# Altium footprint library MyLibOLD.pcblib: 112 footprints (part 3 of 7)
Each footprint in its own frame and in the unit in brackets; x right, y up, seen from the top. Pads: shape width x height; smd on the part's side, far side on the other; paste and mask are expansions set on the pad; w line width, h text height; cw(c..) or ccw(c..) is an arc to the next point about the centre after c.
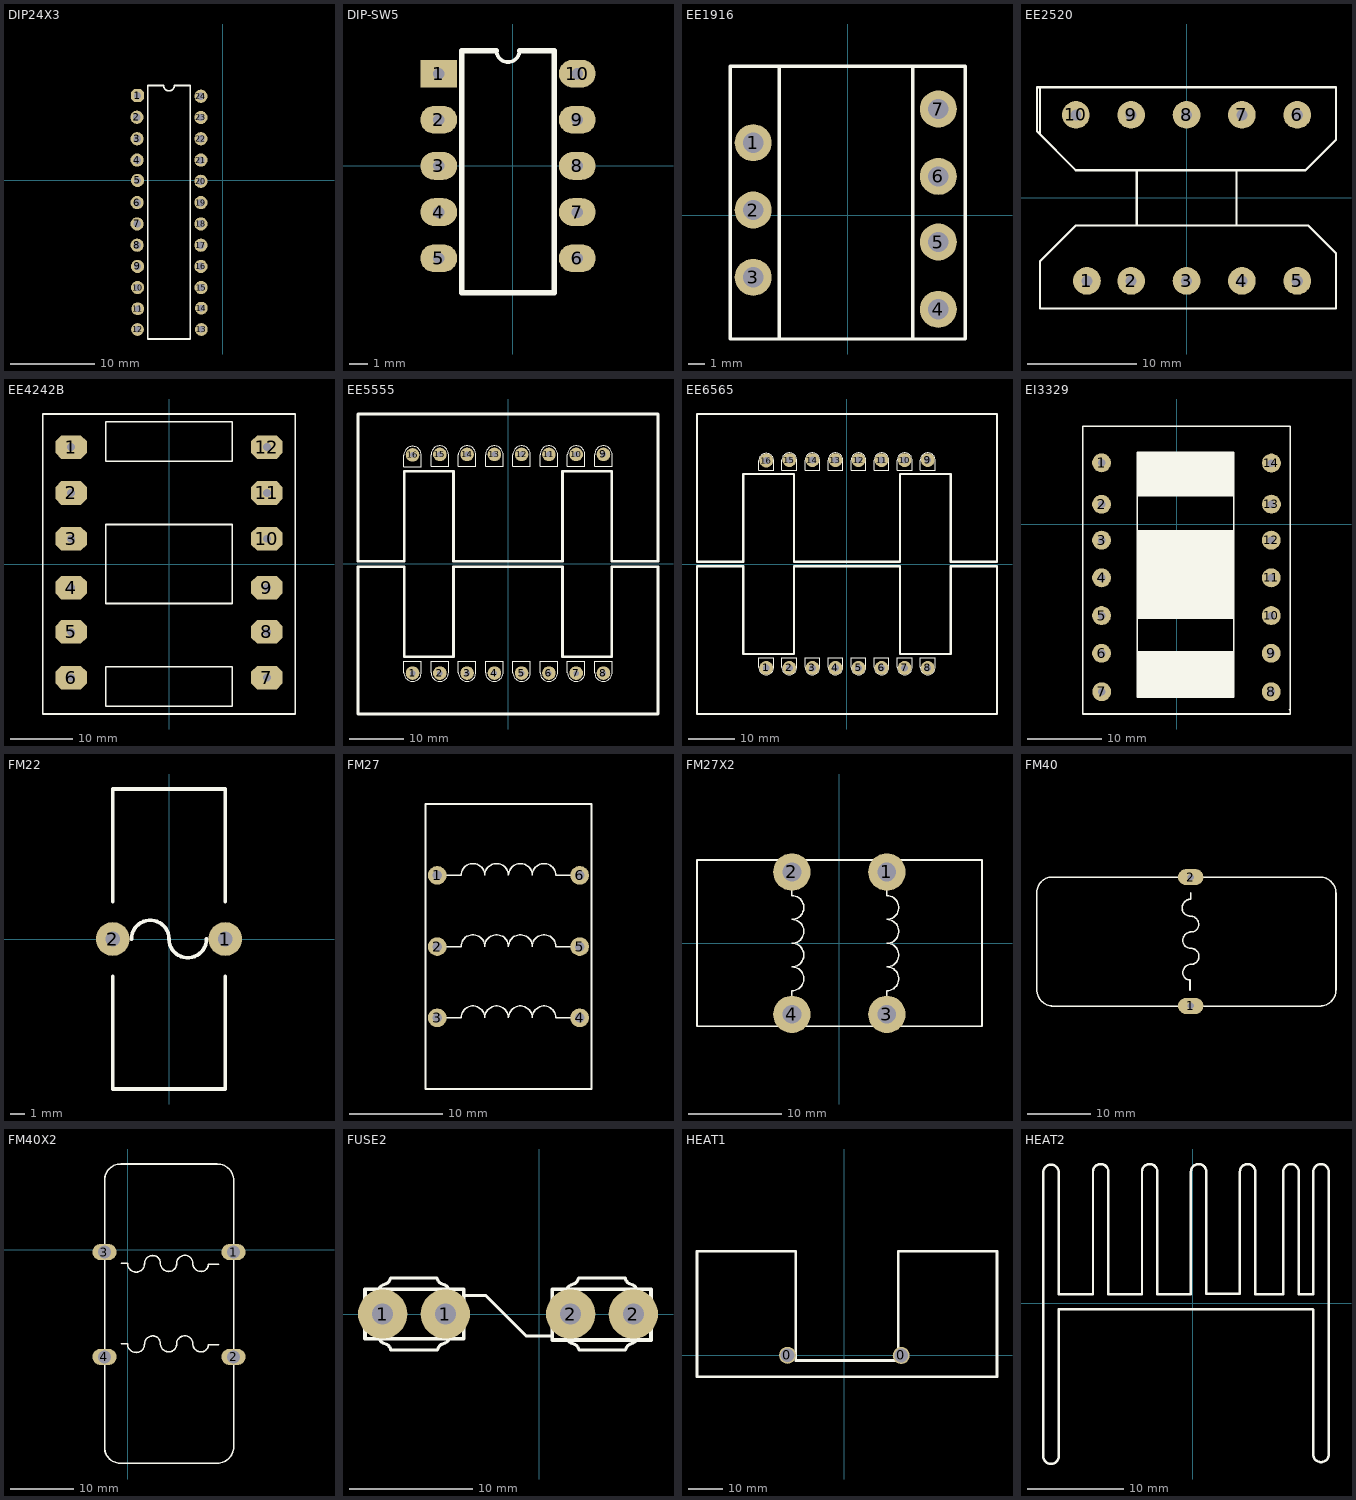
[diagram p2: the footprints below, top view; thin cyan lines are the x and y axes]

## DIP24X3 [mil]
pads (24):
  oct 62x62 hole 35: 1(-400,399)
  round 62 hole 35: 2(-403,297) 3(-402,196) 4(-402,96) 5(-400,0) 6(-402,-104) 7(-402,-204) 8(-402,-304) 9(-400,-404) 10(-400,-503) 15(-101,-503) 16(-102,-404) 17(-102,-304) 18(-102,-204) 19(-102,-104) 20(-102,-4) 21(-102,96) 22(-102,196) 23(-102,296) 24(-102,396)
  round 60 hole 30: 11(-399,-603) 12(-400,-700) 13(-100,-700) 14(-100,-600)
TopOverlay:
  lines w7.87: -352,-745 -152,-745 -152,446 -227,446 cw(c-252,446) -277,446 -352,446 -352,-745

## DIP-SW5 [mil]
pads (10):
  rect 80x60 hole 25: 1(-160,200)
  oval 80x60 hole 25: 2(-160,100) 3(-160,0) 4(-160,-100) 5(-160,-200) 6(140,-200) 7(140,-100) 8(140,0) 9(140,100) 10(140,200)
TopLayer:
TopOverlay:
  lines w8: -35,250 ccw(c-10,250) 15,250
  lines w12: -35,250 -110,250 -110,-275 90,-275 90,250 15,250

## EE1916 [mm]
pads (7):
  round 2.2 hole 1.2: 1(-5.625,4.299) 2(-5.625,0.299) 3(-5.625,-3.701) 4(5.375,-5.601) 5(5.375,-1.601) 6(5.375,2.299) 7(5.375,6.299)
TopOverlay:
  lines w0.203: -4.089,-7.29 -4.089,8.814 ; 3.861,-7.315 3.861,8.712 ; 6.909,-7.366 6.985,-7.366 ; 6.985,-7.366 -6.985,-7.366 -6.985,-7.29 -6.985,8.839 -5.537,8.839 6.985,8.839 6.985,-7.366

## EE2520 [mil]
pads (10):
  round 100 hole 40: 1(-360,-300) 2(-200,-300) 3(0,-300) 4(200,-300) 5(400,-300) 6(400,300) 7(200,300) 8(0,300) 9(-200,300) 10(-400,300)
TopOverlay:
  lines w8: -520,400 -540,400 -540,240 -400,100 ; -180,-100 -180,100 ; 180,-100 180,100 ; -400,100 -530,230 -530,400 540,400 540,210 430,100 -400,100 ; -530,-400 -530,-230 -400,-100 440,-100 540,-200 540,-400 -530,-400

## EE4242B [mil]
pads (12):
  oct 200x150 hole 50: 1(-620,740) 2(-620,450) 3(-620,160) 4(-620,-150) 5(-620,-430) 6(-620,-720) 7(620,-720) 8(620,-430) 9(620,-150) 10(620,160) 11(620,450) 12(620,740)
TopOverlay:
  lines w10: -800,-950 800,-950 800,950 -800,950 -800,-950 ; -400,-900 400,-900 400,-650 -400,-650 -400,-900 ; -400,-250 400,-250 400,250 -400,250 -400,-250 ; -400,650 400,650 400,900 -400,900 -400,650

## EE5555 [mm]
pads (16):
  round 2.5 hole 1: 1(-17.5,-20.05) 2(-12.5,-20.05) 3(-7.5,-20.05) 4(-2.5,-20.05) 5(2.5,-20.05) 6(7.5,-20.05) 7(12.5,-20.05) 8(17.5,-20.05) 9(17.5,20.05) 10(12.5,20.05) 11(7.5,20.05) 12(2.5,20.05) 13(-2.5,20.05) 14(-7.5,20.05) 15(-12.5,20.05) 16(-17.5,19.95)
TopOverlay:
  lines w0.203: -19.1,-19.95 ccw(c-17.5,-19.95) -15.9,-19.95 -15.9,-17.85 -19.1,-17.85 -19.1,-19.85 -19.1,-19.95 ; -19.1,17.816 -19.1,19.816 -19.1,19.916 cw(c-17.5,19.916) -15.9,19.916 -15.9,17.816 -19.1,17.816 ; -14.1,-19.95 ccw(c-12.5,-19.95) -10.9,-19.95 -10.9,-17.85 -14.1,-17.85 -14.1,-19.85 -14.1,-19.95 ; -14.1,17.916 -14.1,19.916 -14.1,20.016 cw(c-12.5,20.016) -10.9,20.016 -10.9,17.916 -14.1,17.916 ; -9.1,-19.95 ccw(c-7.5,-19.95) -5.9,-19.95 -5.9,-17.85 -9.1,-17.85 -9.1,-19.85 -9.1,-19.95 ; -9.1,17.916 -9.1,19.916 -9.1,20.016 cw(c-7.5,20.016) -5.9,20.016 -5.9,17.916 -9.1,17.916 ; -4.1,-19.95 ccw(c-2.5,-19.95) -0.9,-19.95 -0.9,-17.85 -4.1,-17.85 -4.1,-19.85 -4.1,-19.95 ; -4.1,17.916 -4.1,19.916 -4.1,20.016 cw(c-2.5,20.016) -0.9,20.016 -0.9,17.916 -4.1,17.916 ; 0.9,-19.95 ccw(c2.5,-19.95) 4.1,-19.95 4.1,-17.85 0.9,-17.85 0.9,-19.85 0.9,-19.95 ; 0.9,17.916 0.9,19.916 0.9,20.016 cw(c2.5,20.016) 4.1,20.016 4.1,17.916 0.9,17.916 ; 5.9,-19.95 ccw(c7.5,-19.95) 9.1,-19.95 9.1,-17.85 5.9,-17.85 5.9,-19.85 5.9,-19.95 ; 5.9,17.916 5.9,19.916 5.9,20.016 cw(c7.5,20.016) 9.1,20.016 9.1,17.916 5.9,17.916 ; 10.9,-19.95 ccw(c12.5,-19.95) 14.1,-19.95 14.1,-17.85 10.9,-17.85 10.9,-19.85 10.9,-19.95 ; 10.9,17.916 10.9,19.916 10.9,20.016 cw(c12.5,20.016) 14.1,20.016 14.1,17.916 10.9,17.916 ; 15.9,-19.95 ccw(c17.5,-19.95) 19.1,-19.95 19.1,-17.85 15.9,-17.85 15.9,-19.85 15.9,-19.95 ; 15.9,17.916 15.9,19.916 15.9,20.016 cw(c17.5,20.016) 19.1,20.016 19.1,17.916 15.9,17.916
  lines w0.5: -27.5,-27.55 -27.5,-0.55 -19,-0.55 -19,-17.05 -10,-17.05 -10,-0.55 10,-0.55 10,-17.05 19,-17.05 19,-0.55 27.5,-0.55 27.5,-27.55 -27.5,-27.55 ; -27.5,0.45 -27.5,27.45 27.5,27.45 27.5,0.45 19,0.45 19,16.95 10,16.95 10,0.45 -10,0.45 -10,16.95 -19,16.95 -19,0.45 -27.5,0.45

## EE6565 [mm]
pads (16):
  round 3 hole 1.5: 1(-17.5,-22.5) 2(-12.5,-22.5) 3(-7.5,-22.5) 4(-2.5,-22.5) 5(2.5,-22.5) 6(7.5,-22.5) 7(12.5,-22.5) 8(17.5,-22.5) 9(17.5,22.5) 10(12.5,22.5) 11(7.5,22.5) 12(2.5,22.5) 13(-2.5,22.5) 14(-7.5,22.5) 15(-12.5,22.5) 16(-17.5,22.4)
TopOverlay:
  lines w0.203: -19.1,-22.4 ccw(c-17.5,-22.4) -15.9,-22.4 -15.9,-20.3 -19.1,-20.3 -19.1,-22.3 -19.1,-22.4 ; -19.1,20.266 -15.9,20.266 -15.9,22.366 ccw(c-17.5,22.366) -19.1,22.366 -19.1,22.266 -19.1,20.266 ; -14.1,-22.4 ccw(c-12.5,-22.4) -10.9,-22.4 -10.9,-20.3 -14.1,-20.3 -14.1,-22.3 -14.1,-22.4 ; -14.1,20.366 -10.9,20.366 -10.9,22.466 ccw(c-12.5,22.466) -14.1,22.466 -14.1,22.366 -14.1,20.366 ; -9.1,-22.4 ccw(c-7.5,-22.4) -5.9,-22.4 -5.9,-20.3 -9.1,-20.3 -9.1,-22.3 -9.1,-22.4 ; -9.1,20.366 -5.9,20.366 -5.9,22.466 ccw(c-7.5,22.466) -9.1,22.466 -9.1,22.366 -9.1,20.366 ; -4.1,-22.4 ccw(c-2.5,-22.4) -0.9,-22.4 -0.9,-20.3 -4.1,-20.3 -4.1,-22.3 -4.1,-22.4 ; -4.1,20.366 -0.9,20.366 -0.9,22.466 ccw(c-2.5,22.466) -4.1,22.466 -4.1,22.366 -4.1,20.366 ; 0.9,-22.4 ccw(c2.5,-22.4) 4.1,-22.4 4.1,-20.3 0.9,-20.3 0.9,-22.3 0.9,-22.4 ; 0.9,20.366 4.1,20.366 4.1,22.466 ccw(c2.5,22.466) 0.9,22.466 0.9,22.366 0.9,20.366 ; 5.9,-22.4 ccw(c7.5,-22.4) 9.1,-22.4 9.1,-20.3 5.9,-20.3 5.9,-22.3 5.9,-22.4 ; 5.9,20.366 9.1,20.366 9.1,22.466 ccw(c7.5,22.466) 5.9,22.466 5.9,22.366 5.9,20.366 ; 10.9,-22.4 ccw(c12.5,-22.4) 14.1,-22.4 14.1,-20.3 10.9,-20.3 10.9,-22.3 10.9,-22.4 ; 10.9,20.366 14.1,20.366 14.1,22.466 ccw(c12.5,22.466) 10.9,22.466 10.9,22.366 10.9,20.366 ; 15.9,-22.4 ccw(c17.5,-22.4) 19.1,-22.4 19.1,-20.3 15.9,-20.3 15.9,-22.3 15.9,-22.4 ; 15.9,20.366 19.1,20.366 19.1,22.466 ccw(c17.5,22.466) 15.9,22.466 15.9,22.366 15.9,20.366
  lines w0.5: -32.5,-32.5 -32.5,-0.5 -22.5,-0.5 -22.5,-19.5 -11.5,-19.5 -11.5,-0.5 11.5,-0.5 11.5,-19.5 22.5,-19.5 22.5,-0.5 32.5,-0.5 32.5,-32.5 -32.5,-32.5 ; -32.5,0.5 -32.5,32.5 32.5,32.5 32.5,0.5 22.5,0.5 22.5,19.5 11.5,19.5 11.5,0.5 -11.5,0.5 -11.5,19.5 -22.5,19.5 -22.5,0.5 -32.5,0.5

## EI3329 [mil]
pads (14):
  round 100 hole 40: 1(-400,325) 2(-400,105) 3(-400,-85) 4(-400,-285) 5(-400,-485) 6(-400,-685) 7(-399,-889) 8(500,-889) 9(500,-685) 10(500,-485) 11(500,-285) 12(500,-85) 13(501,106) 14(501,324)
TopOverlay:
  rectangle: -211.41,-504.35 300.4,-31.91
  rectangle: -211.41,-917.73 300.4,-677.58
  rectangle: -211.41,145.26 300.4,381.48
  lines w8: -500,-985 -500,520 ; -500,-975 -500,-1007 600,-1007 600,-981 ; -491,520 -500,520 ; -207.47,-681.51 -207.47,-677.58 296.46,-677.58 296.46,-681.51 ; 595,-985 600,-985 600,484 600,520 -500,520 ; -211.41,-917.73 -211.41,381.48 300.4,381.48 300.4,-917.73 -211.41,-917.73

## FM22 [mil]
pads (2):
  round 90 hole 39.37: 1(150,0) 2(-150,0)
TopOverlay:
  lines w10: -150,-100 -150,-400 150,-400 150,-100 ; -150,100 -150,400 150,400 150,100 ; -100,0 cw(c-50,0) 0,0 ccw(c50,0) 100,0

## FM27 [mm]
pads (6):
  round 2 hole 1: 1(245.669,74.778) 2(245.669,67.158) 3(245.669,59.538) 4(260.909,59.538) 5(260.909,67.158) 6(260.909,74.778)
TopOverlay:
  lines w0.152: 245.669,59.538 248.209,59.538 cw(c249.479,59.538) 250.749,59.538 cw(c252.019,59.538) 253.289,59.538 cw(c254.559,59.538) 255.829,59.538 cw(c257.099,59.538) 258.369,59.538 260.909,59.538 ; 245.669,67.158 248.209,67.158 cw(c249.479,67.158) 250.749,67.158 cw(c252.019,67.158) 253.289,67.158 cw(c254.559,67.158) 255.829,67.158 cw(c257.099,67.158) 258.369,67.158 260.909,67.158 ; 245.669,74.778 248.209,74.778 cw(c249.479,74.778) 250.749,74.778 cw(c252.019,74.778) 253.289,74.778 cw(c254.559,74.778) 255.829,74.778 cw(c257.099,74.778) 258.369,74.778 260.909,74.778
  lines w0.203: 244.399,51.918 262.179,51.918 262.179,82.398 244.399,82.398 244.399,51.918

## FM27X2 [mm]
pads (4):
  round 4 hole 2: 1(5.08,7.62) 2(-5.08,7.62) 3(5.08,-7.62) 4(-5.08,-7.62)
TopOverlay:
  lines w0.152: -5.08,-7.62 -5.08,-5.08 ccw(c-5.08,-3.81) -5.08,-2.54 ccw(c-5.08,-1.27) -5.08,0 ccw(c-5.08,1.27) -5.08,2.54 ccw(c-5.08,3.81) -5.08,5.08 -5.08,7.62 ; 5.08,-7.62 5.08,-5.08 ccw(c5.08,-3.81) 5.08,-2.54 ccw(c5.08,-1.27) 5.08,0 ccw(c5.08,1.27) 5.08,2.54 ccw(c5.08,3.81) 5.08,5.08 5.08,7.62
  lines w0.203: -15.24,-8.89 15.24,-8.89 15.24,8.89 -15.24,8.89 -15.24,-8.89

## FM40 [mil]
pads (2):
  oval 157.48x100 hole 40: 1(11005,4565) 2(11005,5364)
TopOverlay:
  lines w10: 10156,5364 11806,5364 cw(c11806,5264) 11906,5264 11906,5253 11906,4665 cw(c11805,4665) 11805,4564 10153,4564 cw(c10153,4666) 10051,4666 10051,5268 cw(c10147,5268) 10147,5364 10166,5364 ; 11001,4662 11001,4726 cw(c11001,4771) 10956,4771 cw(c11008,4771) 11008,4823 ccw(c11008,4871) 11056,4871 ccw(c11004,4871) 11004,4923 cw(c11004,4971) 10956,4971 cw(c11009,4971) 11009,5024 ccw(c11009,5070) 11055,5070 ccw(c11003,5070) 11003,5122 cw(c11003,5173) 10952,5173 cw(c11006,5173) 11006,5227 11006,5265

## FM40X2 [mil]
pads (4):
  oval 150x100 hole 78.74: 1(655.85,-13) 2(655.85,-663) 3(-144.15,-13) 4(-144.15,-663)
TopOverlay:
  lines w10: -143.15,-1217 -143.15,433 cw(c-43.15,433) -43.15,533 -32.15,533 555.85,533 cw(c555.85,432) 656.85,432 656.85,-1220 cw(c554.85,-1220) 554.85,-1322 -47.15,-1322 cw(c-47.15,-1226) -143.15,-1226 -143.15,-1207 ; -39.15,-581.69 -1.15,-581.69 ccw(c52.85,-581.69) 52.85,-635.69 ccw(c52.85,-584.69) 103.85,-584.69 cw(c155.85,-584.69) 155.85,-532.69 cw(c155.85,-578.69) 201.85,-578.69 ccw(c254.85,-578.69) 254.85,-631.69 ccw(c254.85,-583.69) 302.85,-583.69 cw(c354.85,-583.69) 354.85,-531.69 cw(c354.85,-579.69) 402.85,-579.69 ccw(c454.85,-579.69) 454.85,-631.69 ccw(c454.85,-586.69) 499.85,-586.69 563.85,-586.69 ; -39.15,-83.26 -1.15,-83.26 ccw(c52.85,-83.26) 52.85,-137.26 ccw(c52.85,-86.26) 103.85,-86.26 cw(c155.85,-86.26) 155.85,-34.26 cw(c155.85,-80.26) 201.85,-80.26 ccw(c254.85,-80.26) 254.85,-133.26 ccw(c254.85,-85.26) 302.85,-85.26 cw(c354.85,-85.26) 354.85,-33.26 cw(c354.85,-81.26) 402.85,-81.26 ccw(c454.85,-81.26) 454.85,-133.26 ccw(c454.85,-88.26) 499.85,-88.26 563.85,-88.26

## FUSE2 [mm]
pads (4):
  round 4 hole 1.7: 1(-12.696,0) 1(-7.62,0) 2(2.54,0) 2(7.616,0)
TopOverlay:
  lines w0.254: -12.965,2.112 cw(c-12.323,1.63) -12.577,2.392 ccw(c-12.704,3.027) -12.065,2.921 -8.279,2.921 ccw(c-7.641,3.027) -7.768,2.392 cw(c-8.022,1.63) -7.379,2.112 ; -12.941,-2.112 ccw(c-12.298,-1.63) -12.552,-2.392 cw(c-12.679,-3.027) -12.041,-2.921 -8.255,-2.921 cw(c-7.616,-3.027) -7.743,-2.392 ccw(c-7.997,-1.63) -7.355,-2.112 ; -6.12,1.499 -4.343,1.499 -1.067,-1.778 1.015,-1.778 ; 2.275,2.112 cw(c2.917,1.63) 2.663,2.392 ccw(c2.536,3.027) 3.175,2.921 6.961,2.921 ccw(c7.599,3.027) 7.472,2.392 cw(c7.218,1.63) 7.861,2.112 ; 2.299,-2.112 ccw(c2.942,-1.63) 2.688,-2.392 cw(c2.561,-3.027) 3.199,-2.921 6.985,-2.921 cw(c7.624,-3.027) 7.497,-2.392 ccw(c7.243,-1.63) 7.885,-2.112
  lines w0.305: -14.12,-2 -14.12,2 -6.12,2 -6.12,-2 -14.12,-2 ; 1.04,-2.1 1.04,2 9.04,2 9.04,-2.1 1.04,-2.1

## HEAT1 [mm]
pads (2):
  round 5 hole 4: 0(-16.68,0.025) 0(16.68,-0.025)
TopOverlay:
  lines w0.762: -43.225,-6.227 44.775,-6.227 44.775,30.5 15.775,30.5 15.775,-1.5 -14.225,-1.5 -14.225,30.5 -43.225,30.5 -43.225,-6.227

## HEAT2 [mil]
TopOverlay:
  lines w10: -547.01,37.01 -547.01,534 ccw(c-578.5,534) -610,534 -610,513 -610,-625 ccw(c-578.5,-625) -547.01,-625 -547.01,-25 452.99,-25 490,-25 492.5,-27.5 492.5,-617.5 ccw(c524,-617.5) 555.49,-617.5 555.49,536.49 ccw(c524,536.49) 492.5,536.49 492.5,37.5 492.98,37.02 433,37.02 433,537 ccw(c401.5,537) 370.01,537 370.01,37.02 255.99,37.01 255.99,537 ccw(c224.5,537) 193,537 193,38 56,38 ; -547.01,37.01 -547,37 ; -547,37 -407,37 -407,537 cw(c-375.5,537) -344.01,537 -344.01,37.01 ; -344.01,37.01 -344,37 ; -344,37 -207,37 ; -344.01,37.01 -344,37 ; -206.99,37.01 -206.99,537 cw(c-175.5,537) -144,537 -144,37 ; -207,37 -206.99,37.01 ; -144.01,37.01 -144,37 ; -144,37 -7,37 -7,537 cw(c24.5,537) 55.99,537 55.99,38.01 ; 55.99,38.01 56,38